# Altium integrated library WCAP-PSLP_rev15a.intlib: 49 symbols (part 1 of 2)
Pins are listed as number, name and electrical type; pins without a type are passive.

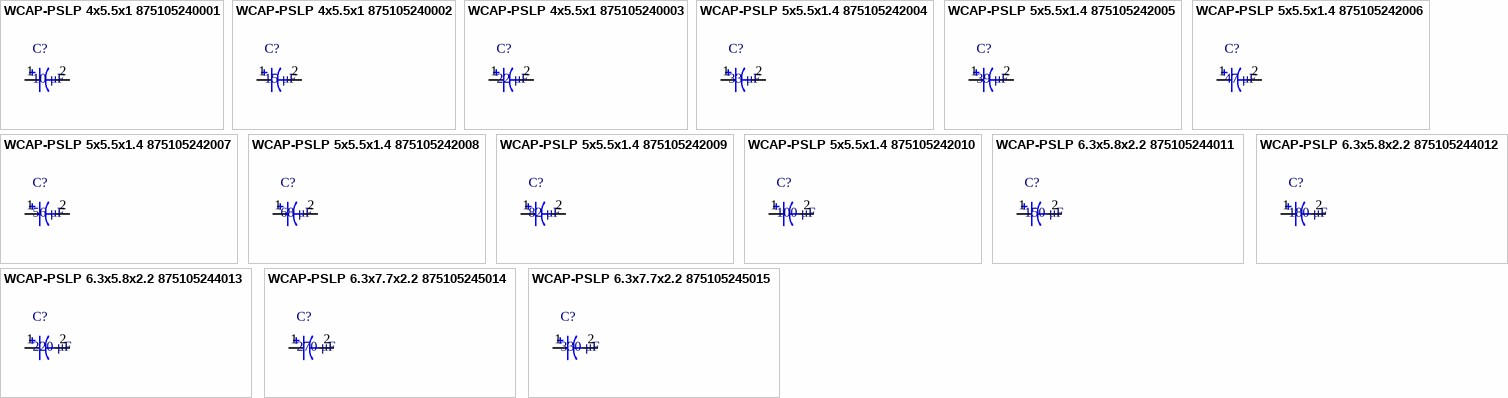
[diagram p0: symbols WCAP-PSLP 4x5.5x1 875105240001 to WCAP-PSLP 6.3x7.7x2.2 875105245015]

## WCAP-PSLP 4x5.5x1 875105240001
designator C?, comment 10 μF
WCAP-PSLP Aluminum Polymer Capacitors , 10 μF; + / - 20%; 10 V , 4 x 5,5; Manufacturer: Wurth Elektronik; partNo: 875105240001; E-mail: libraries@we-online.com; Characteristics: Aluminum Polymer Capacitors;Recommended soldering: Reflow;Operating temperature: –55 °C to +105 °C;Low profile SMD product series;Low ESR at high frequency range;High permissible ripple current;Load life: 2000 h @ +105 °C; ComponentLink1Description: Manufacturer; ComponentLink1URL: http://www.we-online.com; ComponentLink2Description: Datasheet; ComponentLink2URL: http://katalog.we-online.de/pbs/datasheet/875105240001.pdf; Created by: Karrer Zheng; Created Date: 5/13/2015; Capacitance: 10 μF; Application: Low voltage port filtering, appplid to high-end switching power supply, PC(desktop,laptop ),industrial computer, VGA card, server power, charger, TV, digital set-top box,DC-DC power module, game machine etc which consume large current with high speed circuit.
footprint WCAP-PSLP 4x5.5x1
pins: 1, 2

## WCAP-PSLP 4x5.5x1 875105240002
designator C?, comment 15 μF
WCAP-PSLP Aluminum Polymer Capacitors , 15 μF; + / - 20%; 10 V , 4 x 5,5; Manufacturer: Wurth Elektronik; partNo: 875105240002; E-mail: libraries@we-online.com; Characteristics: Aluminum Polymer Capacitors;Recommended soldering: Reflow;Operating temperature: –55 °C to +105 °C;Low profile SMD product series;Low ESR at high frequency range;High permissible ripple current;Load life: 2000 h @ +105 °C; ComponentLink1Description: Manufacturer; ComponentLink1URL: http://www.we-online.com; ComponentLink2Description: Datasheet; ComponentLink2URL: http://katalog.we-online.de/pbs/datasheet/875105240002.pdf; Created by: Karrer Zheng; Created Date: 5/13/2015; Capacitance: 15 μF; Application: Low voltage port filtering, appplid to high-end switching power supply, PC(desktop,laptop ),industrial computer, VGA card, server power, charger, TV, digital set-top box,DC-DC power module, game machine etc which consume large current with high speed circuit.
footprint WCAP-PSLP 4x5.5x1
pins: 1, 2

## WCAP-PSLP 4x5.5x1 875105240003
designator C?, comment 22 μF
WCAP-PSLP Aluminum Polymer Capacitors , 22 μF; + / - 20%; 10 V , 4 x 5,5; Manufacturer: Wurth Elektronik; partNo: 875105240003; E-mail: libraries@we-online.com; Characteristics: Aluminum Polymer Capacitors;Recommended soldering: Reflow;Operating temperature: –55 °C to +105 °C;Low profile SMD product series;Low ESR at high frequency range;High permissible ripple current;Load life: 2000 h @ +105 °C; ComponentLink1Description: Manufacturer; ComponentLink1URL: http://www.we-online.com; ComponentLink2Description: Datasheet; ComponentLink2URL: http://katalog.we-online.de/pbs/datasheet/875105240003.pdf; Created by: Karrer Zheng; Created Date: 5/13/2015; Capacitance: 22 μF; Application: Low voltage port filtering, appplid to high-end switching power supply, PC(desktop,laptop ),industrial computer, VGA card, server power, charger, TV, digital set-top box,DC-DC power module, game machine etc which consume large current with high speed circuit.
footprint WCAP-PSLP 4x5.5x1
pins: 1, 2

## WCAP-PSLP 5x5.5x1.4 875105242004
designator C?, comment 33 μF
WCAP-PSLP Aluminum Polymer Capacitors , 33 μF; + / - 20%; 10 V , 5 x 5,5; Manufacturer: Wurth Elektronik; partNo: 875105242004; E-mail: libraries@we-online.com; Characteristics: Aluminum Polymer Capacitors;Recommended soldering: Reflow;Operating temperature: –55 °C to +105 °C;Low profile SMD product series;Low ESR at high frequency range;High permissible ripple current;Load life: 2000 h @ +105 °C; ComponentLink1Description: Manufacturer; ComponentLink1URL: http://www.we-online.com; ComponentLink2Description: Datasheet; ComponentLink2URL: http://katalog.we-online.de/pbs/datasheet/875105242004.pdf; Created by: Karrer Zheng; Created Date: 5/13/2015; Capacitance: 33 μF; Application: Low voltage port filtering, appplid to high-end switching power supply, PC(desktop,laptop ),industrial computer, VGA card, server power, charger, TV, digital set-top box,DC-DC power module, game machine etc which consume large current with high speed circuit.
footprint WCAP-PSLP 5x5.5x1.4
pins: 1, 2

## WCAP-PSLP 5x5.5x1.4 875105242005
designator C?, comment 39 μF
WCAP-PSLP Aluminum Polymer Capacitors , 39 μF; + / - 20%; 10 V , 5 x 5,5; Manufacturer: Wurth Elektronik; partNo: 875105242005; E-mail: libraries@we-online.com; Characteristics: Aluminum Polymer Capacitors;Recommended soldering: Reflow;Operating temperature: –55 °C to +105 °C;Low profile SMD product series;Low ESR at high frequency range;High permissible ripple current;Load life: 2000 h @ +105 °C; ComponentLink1Description: Manufacturer; ComponentLink1URL: http://www.we-online.com; ComponentLink2Description: Datasheet; ComponentLink2URL: http://katalog.we-online.de/pbs/datasheet/875105242005.pdf; Created by: Karrer Zheng; Created Date: 5/13/2015; Capacitance: 39 μF; Application: Low voltage port filtering, appplid to high-end switching power supply, PC(desktop,laptop ),industrial computer, VGA card, server power, charger, TV, digital set-top box,DC-DC power module, game machine etc which consume large current with high speed circuit.
footprint WCAP-PSLP 5x5.5x1.4
pins: 1, 2

## WCAP-PSLP 5x5.5x1.4 875105242006
designator C?, comment 47 μF
WCAP-PSLP Aluminum Polymer Capacitors , 47 μF; + / - 20%; 10 V , 5 x 5,5; Manufacturer: Wurth Elektronik; partNo: 875105242006; E-mail: libraries@we-online.com; Characteristics: Aluminum Polymer Capacitors;Recommended soldering: Reflow;Operating temperature: –55 °C to +105 °C;Low profile SMD product series;Low ESR at high frequency range;High permissible ripple current;Load life: 2000 h @ +105 °C; ComponentLink1Description: Manufacturer; ComponentLink1URL: http://www.we-online.com; ComponentLink2Description: Datasheet; ComponentLink2URL: http://katalog.we-online.de/pbs/datasheet/875105242006.pdf; Created by: Karrer Zheng; Created Date: 5/13/2015; Capacitance: 47 μF; Application: Low voltage port filtering, appplid to high-end switching power supply, PC(desktop,laptop ),industrial computer, VGA card, server power, charger, TV, digital set-top box,DC-DC power module, game machine etc which consume large current with high speed circuit.
footprint WCAP-PSLP 5x5.5x1.4
pins: 1, 2

## WCAP-PSLP 5x5.5x1.4 875105242007
designator C?, comment 56 μF
WCAP-PSLP Aluminum Polymer Capacitors , 56 μF; + / - 20%; 10 V , 5 x 5,5; Manufacturer: Wurth Elektronik; partNo: 875105242007; E-mail: libraries@we-online.com; Characteristics: Aluminum Polymer Capacitors;Recommended soldering: Reflow;Operating temperature: –55 °C to +105 °C;Low profile SMD product series;Low ESR at high frequency range;High permissible ripple current;Load life: 2000 h @ +105 °C; ComponentLink1Description: Manufacturer; ComponentLink1URL: http://www.we-online.com; ComponentLink2Description: Datasheet; ComponentLink2URL: http://katalog.we-online.de/pbs/datasheet/875105242007.pdf; Created by: Karrer Zheng; Created Date: 5/13/2015; Capacitance: 56 μF; Application: Low voltage port filtering, appplid to high-end switching power supply, PC(desktop,laptop ),industrial computer, VGA card, server power, charger, TV, digital set-top box,DC-DC power module, game machine etc which consume large current with high speed circuit.
footprint WCAP-PSLP 5x5.5x1.4
pins: 1, 2

## WCAP-PSLP 5x5.5x1.4 875105242008
designator C?, comment 68 μF
WCAP-PSLP Aluminum Polymer Capacitors , 68 μF; + / - 20%; 10 V , 5 x 5,5; Manufacturer: Wurth Elektronik; partNo: 875105242008; E-mail: libraries@we-online.com; Characteristics: Aluminum Polymer Capacitors;Recommended soldering: Reflow;Operating temperature: –55 °C to +105 °C;Low profile SMD product series;Low ESR at high frequency range;High permissible ripple current;Load life: 2000 h @ +105 °C; ComponentLink1Description: Manufacturer; ComponentLink1URL: http://www.we-online.com; ComponentLink2Description: Datasheet; ComponentLink2URL: http://katalog.we-online.de/pbs/datasheet/875105242008.pdf; Created by: Karrer Zheng; Created Date: 5/13/2015; Capacitance: 68 μF; Application: Low voltage port filtering, appplid to high-end switching power supply, PC(desktop,laptop ),industrial computer, VGA card, server power, charger, TV, digital set-top box,DC-DC power module, game machine etc which consume large current with high speed circuit.
footprint WCAP-PSLP 5x5.5x1.4
pins: 1, 2

## WCAP-PSLP 5x5.5x1.4 875105242009
designator C?, comment 82 μF
WCAP-PSLP Aluminum Polymer Capacitors , 82 μF; + / - 20%; 10 V , 5 x 5,5; Manufacturer: Wurth Elektronik; partNo: 875105242009; E-mail: libraries@we-online.com; Characteristics: Aluminum Polymer Capacitors;Recommended soldering: Reflow;Operating temperature: –55 °C to +105 °C;Low profile SMD product series;Low ESR at high frequency range;High permissible ripple current;Load life: 2000 h @ +105 °C; ComponentLink1Description: Manufacturer; ComponentLink1URL: http://www.we-online.com; ComponentLink2Description: Datasheet; ComponentLink2URL: http://katalog.we-online.de/pbs/datasheet/875105242009.pdf; Created by: Karrer Zheng; Created Date: 5/13/2015; Capacitance: 82 μF; Application: Low voltage port filtering, appplid to high-end switching power supply, PC(desktop,laptop ),industrial computer, VGA card, server power, charger, TV, digital set-top box,DC-DC power module, game machine etc which consume large current with high speed circuit.
footprint WCAP-PSLP 5x5.5x1.4
pins: 1, 2

## WCAP-PSLP 5x5.5x1.4 875105242010
designator C?, comment 100 μF
WCAP-PSLP Aluminum Polymer Capacitors , 100 μF; + / - 20%; 10 V , 5 x 5,5; Manufacturer: Wurth Elektronik; partNo: 875105242010; E-mail: libraries@we-online.com; Characteristics: Aluminum Polymer Capacitors;Recommended soldering: Reflow;Operating temperature: –55 °C to +105 °C;Low profile SMD product series;Low ESR at high frequency range;High permissible ripple current;Load life: 2000 h @ +105 °C; ComponentLink1Description: Manufacturer; ComponentLink1URL: http://www.we-online.com; ComponentLink2Description: Datasheet; ComponentLink2URL: http://katalog.we-online.de/pbs/datasheet/875105242010.pdf; Created by: Karrer Zheng; Created Date: 5/13/2015; Capacitance: 100 μF; Application: Low voltage port filtering, appplid to high-end switching power supply, PC(desktop,laptop ),industrial computer, VGA card, server power, charger, TV, digital set-top box,DC-DC power module, game machine etc which consume large current with high speed circuit.
footprint WCAP-PSLP 5x5.5x1.4
pins: 1, 2

## WCAP-PSLP 6.3x5.8x2.2 875105244011
designator C?, comment 150 μF
WCAP-PSLP Aluminum Polymer Capacitors , 150 μF; + / - 20%; 10 V , 6,3 x 5,8; Manufacturer: Wurth Elektronik; partNo: 875105244011; E-mail: libraries@we-online.com; Characteristics: Aluminum Polymer Capacitors;Recommended soldering: Reflow;Operating temperature: –55 °C to +105 °C;Low profile SMD product series;Low ESR at high frequency range;High permissible ripple current;Load life: 2000 h @ +105 °C; ComponentLink1Description: Manufacturer; ComponentLink1URL: http://www.we-online.com; ComponentLink2Description: Datasheet; ComponentLink2URL: http://katalog.we-online.de/pbs/datasheet/875105244011.pdf; Created by: Karrer Zheng; Created Date: 5/13/2015; Capacitance: 150 μF; Application: Low voltage port filtering, appplid to high-end switching power supply, PC(desktop,laptop ),industrial computer, VGA card, server power, charger, TV, digital set-top box,DC-DC power module, game machine etc which consume large current with high speed circuit.
footprint WCAP-PSLP 6.3x5.8x2.2
pins: 1, 2

## WCAP-PSLP 6.3x5.8x2.2 875105244012
designator C?, comment 180 μF
WCAP-PSLP Aluminum Polymer Capacitors , 180 μF; + / - 20%; 10 V , 6,3 x 5,8; Manufacturer: Wurth Elektronik; partNo: 875105244012; E-mail: libraries@we-online.com; Characteristics: Aluminum Polymer Capacitors;Recommended soldering: Reflow;Operating temperature: –55 °C to +105 °C;Low profile SMD product series;Low ESR at high frequency range;High permissible ripple current;Load life: 2000 h @ +105 °C; ComponentLink1Description: Manufacturer; ComponentLink1URL: http://www.we-online.com; ComponentLink2Description: Datasheet; ComponentLink2URL: http://katalog.we-online.de/pbs/datasheet/875105244012.pdf; Created by: Karrer Zheng; Created Date: 5/13/2015; Capacitance: 180 μF; Application: Low voltage port filtering, appplid to high-end switching power supply, PC(desktop,laptop ),industrial computer, VGA card, server power, charger, TV, digital set-top box,DC-DC power module, game machine etc which consume large current with high speed circuit.
footprint WCAP-PSLP 6.3x5.8x2.2
pins: 1, 2

## WCAP-PSLP 6.3x5.8x2.2 875105244013
designator C?, comment 220 μF
WCAP-PSLP Aluminum Polymer Capacitors , 220 μF; + / - 20%; 10 V , 6,3 x 5,8; Manufacturer: Wurth Elektronik; partNo: 875105244013; E-mail: libraries@we-online.com; Characteristics: Aluminum Polymer Capacitors;Recommended soldering: Reflow;Operating temperature: –55 °C to +105 °C;Low profile SMD product series;Low ESR at high frequency range;High permissible ripple current;Load life: 2000 h @ +105 °C; ComponentLink1Description: Manufacturer; ComponentLink1URL: http://www.we-online.com; ComponentLink2Description: Datasheet; ComponentLink2URL: http://katalog.we-online.de/pbs/datasheet/875105244013.pdf; Created by: Karrer Zheng; Created Date: 5/13/2015; Capacitance: 220 μF; Application: Low voltage port filtering, appplid to high-end switching power supply, PC(desktop,laptop ),industrial computer, VGA card, server power, charger, TV, digital set-top box,DC-DC power module, game machine etc which consume large current with high speed circuit.
footprint WCAP-PSLP 6.3x5.8x2.2
pins: 1, 2

## WCAP-PSLP 6.3x7.7x2.2 875105245014
designator C?, comment 270 μF
WCAP-PSLP Aluminum Polymer Capacitors , 270 μF; + / - 20%; 10 V , 6,3 x 7,7; Manufacturer: Wurth Elektronik; partNo: 875105245014; E-mail: libraries@we-online.com; Characteristics: Aluminum Polymer Capacitors;Recommended soldering: Reflow;Operating temperature: –55 °C to +105 °C;Low profile SMD product series;Low ESR at high frequency range;High permissible ripple current;Load life: 2000 h @ +105 °C; ComponentLink1Description: Manufacturer; ComponentLink1URL: http://www.we-online.com; ComponentLink2Description: Datasheet; ComponentLink2URL: http://katalog.we-online.de/pbs/datasheet/875105245014.pdf; Created by: Karrer Zheng; Created Date: 5/13/2015; Capacitance: 270 μF; Application: Low voltage port filtering, appplid to high-end switching power supply, PC(desktop,laptop ),industrial computer, VGA card, server power, charger, TV, digital set-top box,DC-DC power module, game machine etc which consume large current with high speed circuit.
footprint WCAP-PSLP 6.3x7.7x2.2
pins: 1, 2

## WCAP-PSLP 6.3x7.7x2.2 875105245015
designator C?, comment 330 μF
WCAP-PSLP Aluminum Polymer Capacitors , 330 μF; + / - 20%; 10 V , 6,3 x 7,7; Manufacturer: Wurth Elektronik; partNo: 875105245015; E-mail: libraries@we-online.com; Characteristics: Aluminum Polymer Capacitors;Recommended soldering: Reflow;Operating temperature: –55 °C to +105 °C;Low profile SMD product series;Low ESR at high frequency range;High permissible ripple current;Load life: 2000 h @ +105 °C; ComponentLink1Description: Manufacturer; ComponentLink1URL: http://www.we-online.com; ComponentLink2Description: Datasheet; ComponentLink2URL: http://katalog.we-online.de/pbs/datasheet/875105245015.pdf; Created by: Karrer Zheng; Created Date: 5/13/2015; Capacitance: 330 μF; Application: Low voltage port filtering, appplid to high-end switching power supply, PC(desktop,laptop ),industrial computer, VGA card, server power, charger, TV, digital set-top box,DC-DC power module, game machine etc which consume large current with high speed circuit.
footprint WCAP-PSLP 6.3x7.7x2.2
pins: 1, 2


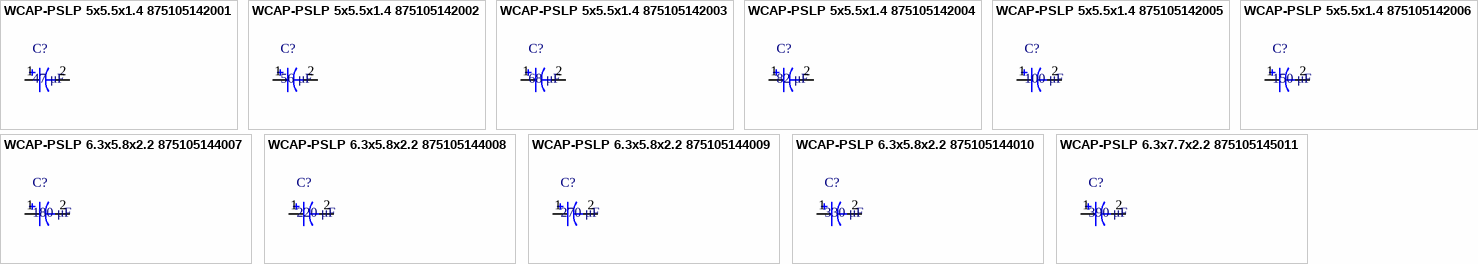
[diagram p1: symbols WCAP-PSLP 5x5.5x1.4 875105142001 to WCAP-PSLP 6.3x7.7x2.2 875105145011]

## WCAP-PSLP 5x5.5x1.4 875105142001
designator C?, comment 47 μF
WCAP-PSLP Aluminum Polymer Capacitors , 47 μF; + / - 20%; 6,3 V , 5 x 5,5; Manufacturer: Wurth Elektronik; partNo: 875105142001; E-mail: libraries@we-online.com; Characteristics: Aluminum Polymer Capacitors;Recommended soldering: Reflow;Operating temperature: –55 °C to +105 °C;Low profile SMD product series;Low ESR at high frequency range;High permissible ripple current;Load life: 2000 h @ +105 °C; ComponentLink1Description: Manufacturer; ComponentLink1URL: http://www.we-online.com; ComponentLink2Description: Datasheet; ComponentLink2URL: http://katalog.we-online.de/pbs/datasheet/875105142001.pdf; Created by: Karrer Zheng; Created Date: 5/13/2015; Capacitance: 47 μF; Application: Low voltage port filtering, appplid to high-end switching power supply, PC(desktop,laptop ),industrial computer, VGA card, server power, charger, TV, digital set-top box,DC-DC power module, game machine etc which consume large current with high speed circuit.
footprint WCAP-PSLP 5x5.5x1.4
pins: 1, 2

## WCAP-PSLP 5x5.5x1.4 875105142002
designator C?, comment 56 μF
WCAP-PSLP Aluminum Polymer Capacitors , 56 μF; + / - 20%; 6,3 V , 5 x 5,5; Manufacturer: Wurth Elektronik; partNo: 875105142002; E-mail: libraries@we-online.com; Characteristics: Aluminum Polymer Capacitors;Recommended soldering: Reflow;Operating temperature: –55 °C to +105 °C;Low profile SMD product series;Low ESR at high frequency range;High permissible ripple current;Load life: 2000 h @ +105 °C; ComponentLink1Description: Manufacturer; ComponentLink1URL: http://www.we-online.com; ComponentLink2Description: Datasheet; ComponentLink2URL: http://katalog.we-online.de/pbs/datasheet/875105142002.pdf; Created by: Karrer Zheng; Created Date: 5/13/2015; Capacitance: 56 μF; Application: Low voltage port filtering, appplid to high-end switching power supply, PC(desktop,laptop ),industrial computer, VGA card, server power, charger, TV, digital set-top box,DC-DC power module, game machine etc which consume large current with high speed circuit.
footprint WCAP-PSLP 5x5.5x1.4
pins: 1, 2

## WCAP-PSLP 5x5.5x1.4 875105142003
designator C?, comment 68 μF
WCAP-PSLP Aluminum Polymer Capacitors , 68 μF; + / - 20%; 6,3 V , 5 x 5,5; Manufacturer: Wurth Elektronik; partNo: 875105142003; E-mail: libraries@we-online.com; Characteristics: Aluminum Polymer Capacitors;Recommended soldering: Reflow;Operating temperature: –55 °C to +105 °C;Low profile SMD product series;Low ESR at high frequency range;High permissible ripple current;Load life: 2000 h @ +105 °C; ComponentLink1Description: Manufacturer; ComponentLink1URL: http://www.we-online.com; ComponentLink2Description: Datasheet; ComponentLink2URL: http://katalog.we-online.de/pbs/datasheet/875105142003.pdf; Created by: Karrer Zheng; Created Date: 5/13/2015; Capacitance: 68 μF; Application: Low voltage port filtering, appplid to high-end switching power supply, PC(desktop,laptop ),industrial computer, VGA card, server power, charger, TV, digital set-top box,DC-DC power module, game machine etc which consume large current with high speed circuit.
footprint WCAP-PSLP 5x5.5x1.4
pins: 1, 2

## WCAP-PSLP 5x5.5x1.4 875105142004
designator C?, comment 82 μF
WCAP-PSLP Aluminum Polymer Capacitors , 82 μF; + / - 20%; 6,3 V , 5 x 5,5; Manufacturer: Wurth Elektronik; partNo: 875105142004; E-mail: libraries@we-online.com; Characteristics: Aluminum Polymer Capacitors;Recommended soldering: Reflow;Operating temperature: –55 °C to +105 °C;Low profile SMD product series;Low ESR at high frequency range;High permissible ripple current;Load life: 2000 h @ +105 °C; ComponentLink1Description: Manufacturer; ComponentLink1URL: http://www.we-online.com; ComponentLink2Description: Datasheet; ComponentLink2URL: http://katalog.we-online.de/pbs/datasheet/875105142004.pdf; Created by: Karrer Zheng; Created Date: 5/13/2015; Capacitance: 82 μF; Application: Low voltage port filtering, appplid to high-end switching power supply, PC(desktop,laptop ),industrial computer, VGA card, server power, charger, TV, digital set-top box,DC-DC power module, game machine etc which consume large current with high speed circuit.
footprint WCAP-PSLP 5x5.5x1.4
pins: 1, 2

## WCAP-PSLP 5x5.5x1.4 875105142005
designator C?, comment 100 μF
WCAP-PSLP Aluminum Polymer Capacitors , 100 μF; + / - 20%; 6,3 V , 5 x 5,5; Manufacturer: Wurth Elektronik; partNo: 875105142005; E-mail: libraries@we-online.com; Characteristics: Aluminum Polymer Capacitors;Recommended soldering: Reflow;Operating temperature: –55 °C to +105 °C;Low profile SMD product series;Low ESR at high frequency range;High permissible ripple current;Load life: 2000 h @ +105 °C; ComponentLink1Description: Manufacturer; ComponentLink1URL: http://www.we-online.com; ComponentLink2Description: Datasheet; ComponentLink2URL: http://katalog.we-online.de/pbs/datasheet/875105142005.pdf; Created by: Karrer Zheng; Created Date: 5/13/2015; Capacitance: 100 μF; Application: Low voltage port filtering, appplid to high-end switching power supply, PC(desktop,laptop ),industrial computer, VGA card, server power, charger, TV, digital set-top box,DC-DC power module, game machine etc which consume large current with high speed circuit.
footprint WCAP-PSLP 5x5.5x1.4
pins: 1, 2

## WCAP-PSLP 5x5.5x1.4 875105142006
designator C?, comment 150 μF
WCAP-PSLP Aluminum Polymer Capacitors , 150 μF; + / - 20%; 6,3 V , 5 x 5,5; Manufacturer: Wurth Elektronik; partNo: 875105142006; E-mail: libraries@we-online.com; Characteristics: Aluminum Polymer Capacitors;Recommended soldering: Reflow;Operating temperature: –55 °C to +105 °C;Low profile SMD product series;Low ESR at high frequency range;High permissible ripple current;Load life: 2000 h @ +105 °C; ComponentLink1Description: Manufacturer; ComponentLink1URL: http://www.we-online.com; ComponentLink2Description: Datasheet; ComponentLink2URL: http://katalog.we-online.de/pbs/datasheet/875105142006.pdf; Created by: Karrer Zheng; Created Date: 5/13/2015; Capacitance: 150 μF; Application: Low voltage port filtering, appplid to high-end switching power supply, PC(desktop,laptop ),industrial computer, VGA card, server power, charger, TV, digital set-top box,DC-DC power module, game machine etc which consume large current with high speed circuit.
footprint WCAP-PSLP 5x5.5x1.4
pins: 1, 2

## WCAP-PSLP 6.3x5.8x2.2 875105144007
designator C?, comment 180 μF
WCAP-PSLP Aluminum Polymer Capacitors , 180 μF; + / - 20%; 6,3 V , 6,3 x 5,8; Manufacturer: Wurth Elektronik; partNo: 875105144007; E-mail: libraries@we-online.com; Characteristics: Aluminum Polymer Capacitors;Recommended soldering: Reflow;Operating temperature: –55 °C to +105 °C;Low profile SMD product series;Low ESR at high frequency range;High permissible ripple current;Load life: 2000 h @ +105 °C; ComponentLink1Description: Manufacturer; ComponentLink1URL: http://www.we-online.com; ComponentLink2Description: Datasheet; ComponentLink2URL: http://katalog.we-online.de/pbs/datasheet/875105144007.pdf; Created by: Karrer Zheng; Created Date: 5/13/2015; Capacitance: 180 μF; Application: Low voltage port filtering, appplid to high-end switching power supply, PC(desktop,laptop ),industrial computer, VGA card, server power, charger, TV, digital set-top box,DC-DC power module, game machine etc which consume large current with high speed circuit.
footprint WCAP-PSLP 6.3x5.8x2.2
pins: 1, 2

## WCAP-PSLP 6.3x5.8x2.2 875105144008
designator C?, comment 220 μF
WCAP-PSLP Aluminum Polymer Capacitors , 220 μF; + / - 20%; 6,3 V , 6,3 x 5,8; Manufacturer: Wurth Elektronik; partNo: 875105144008; E-mail: libraries@we-online.com; Characteristics: Aluminum Polymer Capacitors;Recommended soldering: Reflow;Operating temperature: –55 °C to +105 °C;Low profile SMD product series;Low ESR at high frequency range;High permissible ripple current;Load life: 2000 h @ +105 °C; ComponentLink1Description: Manufacturer; ComponentLink1URL: http://www.we-online.com; ComponentLink2Description: Datasheet; ComponentLink2URL: http://katalog.we-online.de/pbs/datasheet/875105144008.pdf; Created by: Karrer Zheng; Created Date: 5/13/2015; Capacitance: 220 μF; Application: Low voltage port filtering, appplid to high-end switching power supply, PC(desktop,laptop ),industrial computer, VGA card, server power, charger, TV, digital set-top box,DC-DC power module, game machine etc which consume large current with high speed circuit.
footprint WCAP-PSLP 6.3x5.8x2.2
pins: 1, 2

## WCAP-PSLP 6.3x5.8x2.2 875105144009
designator C?, comment 270 μF
WCAP-PSLP Aluminum Polymer Capacitors , 270 μF; + / - 20%; 6,3 V , 6,3 x 5,8; Manufacturer: Wurth Elektronik; partNo: 875105144009; E-mail: libraries@we-online.com; Characteristics: Aluminum Polymer Capacitors;Recommended soldering: Reflow;Operating temperature: –55 °C to +105 °C;Low profile SMD product series;Low ESR at high frequency range;High permissible ripple current;Load life: 2000 h @ +105 °C; ComponentLink1Description: Manufacturer; ComponentLink1URL: http://www.we-online.com; ComponentLink2Description: Datasheet; ComponentLink2URL: http://katalog.we-online.de/pbs/datasheet/875105144009.pdf; Created by: Karrer Zheng; Created Date: 5/13/2015; Capacitance: 270 μF; Application: Low voltage port filtering, appplid to high-end switching power supply, PC(desktop,laptop ),industrial computer, VGA card, server power, charger, TV, digital set-top box,DC-DC power module, game machine etc which consume large current with high speed circuit.
footprint WCAP-PSLP 6.3x5.8x2.2
pins: 1, 2

## WCAP-PSLP 6.3x5.8x2.2 875105144010
designator C?, comment 330 μF
WCAP-PSLP Aluminum Polymer Capacitors , 330 μF; + / - 20%; 6,3 V , 6,3 x 5,8; Manufacturer: Wurth Elektronik; partNo: 875105144010; E-mail: libraries@we-online.com; Characteristics: Aluminum Polymer Capacitors;Recommended soldering: Reflow;Operating temperature: –55 °C to +105 °C;Low profile SMD product series;Low ESR at high frequency range;High permissible ripple current;Load life: 2000 h @ +105 °C; ComponentLink1Description: Manufacturer; ComponentLink1URL: http://www.we-online.com; ComponentLink2Description: Datasheet; ComponentLink2URL: http://katalog.we-online.de/pbs/datasheet/875105144010.pdf; Created by: Karrer Zheng; Created Date: 5/13/2015; Capacitance: 330 μF; Application: Low voltage port filtering, appplid to high-end switching power supply, PC(desktop,laptop ),industrial computer, VGA card, server power, charger, TV, digital set-top box,DC-DC power module, game machine etc which consume large current with high speed circuit.
footprint WCAP-PSLP 6.3x5.8x2.2
pins: 1, 2

## WCAP-PSLP 6.3x7.7x2.2 875105145011
designator C?, comment 390 μF
WCAP-PSLP Aluminum Polymer Capacitors , 390 μF; + / - 20%; 6,3 V , 6,3 x 7,7; Manufacturer: Wurth Elektronik; partNo: 875105145011; E-mail: libraries@we-online.com; Characteristics: Aluminum Polymer Capacitors;Recommended soldering: Reflow;Operating temperature: –55 °C to +105 °C;Low profile SMD product series;Low ESR at high frequency range;High permissible ripple current;Load life: 2000 h @ +105 °C; ComponentLink1Description: Manufacturer; ComponentLink1URL: http://www.we-online.com; ComponentLink2Description: Datasheet; ComponentLink2URL: http://katalog.we-online.de/pbs/datasheet/875105145011.pdf; Created by: Karrer Zheng; Created Date: 5/13/2015; Capacitance: 390 μF; Application: Low voltage port filtering, appplid to high-end switching power supply, PC(desktop,laptop ),industrial computer, VGA card, server power, charger, TV, digital set-top box,DC-DC power module, game machine etc which consume large current with high speed circuit.
footprint WCAP-PSLP 6.3x7.7x2.2
pins: 1, 2


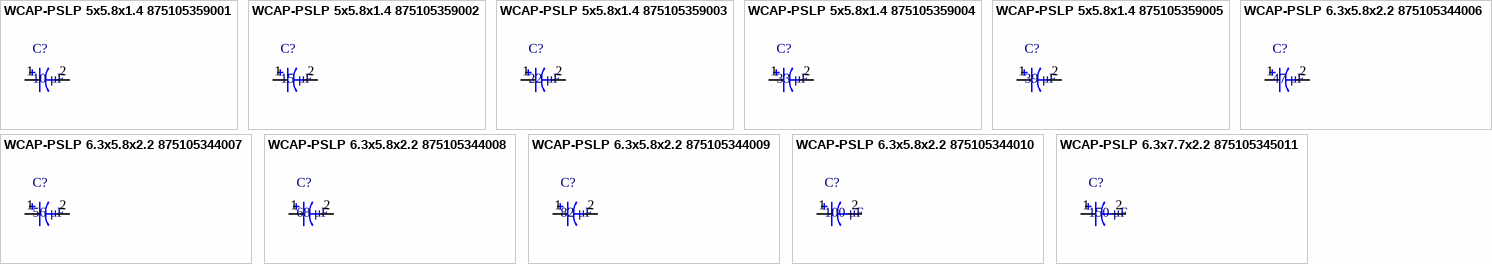
[diagram p2: symbols WCAP-PSLP 5x5.8x1.4 875105359001 to WCAP-PSLP 6.3x7.7x2.2 875105345011]

## WCAP-PSLP 5x5.8x1.4 875105359001
designator C?, comment 10 μF
WCAP-PSLP Aluminum Polymer Capacitors , 10 μF; + / - 20%; 16 V , 5 x 5,8; Manufacturer: Wurth Elektronik; partNo: 875105359001; E-mail: libraries@we-online.com; Characteristics: Aluminum Polymer Capacitors;Recommended soldering: Reflow;Operating temperature: –55 °C to +105 °C;Low profile SMD product series;Low ESR at high frequency range;High permissible ripple current;Load life: 2000 h @ +105 °C; ComponentLink1Description: Manufacturer; ComponentLink1URL: http://www.we-online.com; ComponentLink2Description: Datasheet; ComponentLink2URL: http://katalog.we-online.de/pbs/datasheet/875105359001.pdf; Created by: Karrer Zheng; Created Date: 5/13/2015; Capacitance: 10 μF; Application: Low voltage port filtering, appplid to high-end switching power supply, PC(desktop,laptop ),industrial computer, VGA card, server power, charger, TV, digital set-top box,DC-DC power module, game machine etc which consume large current with high speed circuit.
footprint WCAP-PSLP 5x5.8x1.4
pins: 1, 2

## WCAP-PSLP 5x5.8x1.4 875105359002
designator C?, comment 15 μF
WCAP-PSLP Aluminum Polymer Capacitors , 15 μF; + / - 20%; 16 V , 5 x 5,8; Manufacturer: Wurth Elektronik; partNo: 875105359002; E-mail: libraries@we-online.com; Characteristics: Aluminum Polymer Capacitors;Recommended soldering: Reflow;Operating temperature: –55 °C to +105 °C;Low profile SMD product series;Low ESR at high frequency range;High permissible ripple current;Load life: 2000 h @ +105 °C; ComponentLink1Description: Manufacturer; ComponentLink1URL: http://www.we-online.com; ComponentLink2Description: Datasheet; ComponentLink2URL: http://katalog.we-online.de/pbs/datasheet/875105359002.pdf; Created by: Karrer Zheng; Created Date: 5/13/2015; Capacitance: 15 μF; Application: Low voltage port filtering, appplid to high-end switching power supply, PC(desktop,laptop ),industrial computer, VGA card, server power, charger, TV, digital set-top box,DC-DC power module, game machine etc which consume large current with high speed circuit.
footprint WCAP-PSLP 5x5.8x1.4
pins: 1, 2

## WCAP-PSLP 5x5.8x1.4 875105359003
designator C?, comment 22 μF
WCAP-PSLP Aluminum Polymer Capacitors , 22 μF; + / - 20%; 16 V , 5 x 5,8; Manufacturer: Wurth Elektronik; partNo: 875105359003; E-mail: libraries@we-online.com; Characteristics: Aluminum Polymer Capacitors;Recommended soldering: Reflow;Operating temperature: –55 °C to +105 °C;Low profile SMD product series;Low ESR at high frequency range;High permissible ripple current;Load life: 2000 h @ +105 °C; ComponentLink1Description: Manufacturer; ComponentLink1URL: http://www.we-online.com; ComponentLink2Description: Datasheet; ComponentLink2URL: http://katalog.we-online.de/pbs/datasheet/875105359003.pdf; Created by: Karrer Zheng; Created Date: 5/13/2015; Capacitance: 22 μF; Application: Low voltage port filtering, appplid to high-end switching power supply, PC(desktop,laptop ),industrial computer, VGA card, server power, charger, TV, digital set-top box,DC-DC power module, game machine etc which consume large current with high speed circuit.
footprint WCAP-PSLP 5x5.8x1.4
pins: 1, 2

## WCAP-PSLP 5x5.8x1.4 875105359004
designator C?, comment 33 μF
WCAP-PSLP Aluminum Polymer Capacitors , 33 μF; + / - 20%; 16 V , 5 x 5,8; Manufacturer: Wurth Elektronik; partNo: 875105359004; E-mail: libraries@we-online.com; Characteristics: Aluminum Polymer Capacitors;Recommended soldering: Reflow;Operating temperature: –55 °C to +105 °C;Low profile SMD product series;Low ESR at high frequency range;High permissible ripple current;Load life: 2000 h @ +105 °C; ComponentLink1Description: Manufacturer; ComponentLink1URL: http://www.we-online.com; ComponentLink2Description: Datasheet; ComponentLink2URL: http://katalog.we-online.de/pbs/datasheet/875105359004.pdf; Created by: Karrer Zheng; Created Date: 5/13/2015; Capacitance: 33 μF; Application: Low voltage port filtering, appplid to high-end switching power supply, PC(desktop,laptop ),industrial computer, VGA card, server power, charger, TV, digital set-top box,DC-DC power module, game machine etc which consume large current with high speed circuit.
footprint WCAP-PSLP 5x5.8x1.4
pins: 1, 2

## WCAP-PSLP 5x5.8x1.4 875105359005
designator C?, comment 39 μF
WCAP-PSLP Aluminum Polymer Capacitors , 39 μF; + / - 20%; 16 V , 5 x 5,8; Manufacturer: Wurth Elektronik; partNo: 875105359005; E-mail: libraries@we-online.com; Characteristics: Aluminum Polymer Capacitors;Recommended soldering: Reflow;Operating temperature: –55 °C to +105 °C;Low profile SMD product series;Low ESR at high frequency range;High permissible ripple current;Load life: 2000 h @ +105 °C; ComponentLink1Description: Manufacturer; ComponentLink1URL: http://www.we-online.com; ComponentLink2Description: Datasheet; ComponentLink2URL: http://katalog.we-online.de/pbs/datasheet/875105359005.pdf; Created by: Karrer Zheng; Created Date: 5/13/2015; Capacitance: 39 μF; Application: Low voltage port filtering, appplid to high-end switching power supply, PC(desktop,laptop ),industrial computer, VGA card, server power, charger, TV, digital set-top box,DC-DC power module, game machine etc which consume large current with high speed circuit.
footprint WCAP-PSLP 5x5.8x1.4
pins: 1, 2

## WCAP-PSLP 6.3x5.8x2.2 875105344006
designator C?, comment 47 μF
WCAP-PSLP Aluminum Polymer Capacitors , 47 μF; + / - 20%; 16 V , 6,3 x 5,8; Manufacturer: Wurth Elektronik; partNo: 875105344006; E-mail: libraries@we-online.com; Characteristics: Aluminum Polymer Capacitors;Recommended soldering: Reflow;Operating temperature: –55 °C to +105 °C;Low profile SMD product series;Low ESR at high frequency range;High permissible ripple current;Load life: 2000 h @ +105 °C; ComponentLink1Description: Manufacturer; ComponentLink1URL: http://www.we-online.com; ComponentLink2Description: Datasheet; ComponentLink2URL: http://katalog.we-online.de/pbs/datasheet/875105344006.pdf; Created by: Karrer Zheng; Created Date: 5/13/2015; Capacitance: 47 μF; Application: Low voltage port filtering, appplid to high-end switching power supply, PC(desktop,laptop ),industrial computer, VGA card, server power, charger, TV, digital set-top box,DC-DC power module, game machine etc which consume large current with high speed circuit.
footprint WCAP-PSLP 6.3x5.8x2.2
pins: 1, 2

## WCAP-PSLP 6.3x5.8x2.2 875105344007
designator C?, comment 56 μF
WCAP-PSLP Aluminum Polymer Capacitors , 56 μF; + / - 20%; 16 V , 6,3 x 5,8; Manufacturer: Wurth Elektronik; partNo: 875105344007; E-mail: libraries@we-online.com; Characteristics: Aluminum Polymer Capacitors;Recommended soldering: Reflow;Operating temperature: –55 °C to +105 °C;Low profile SMD product series;Low ESR at high frequency range;High permissible ripple current;Load life: 2000 h @ +105 °C; ComponentLink1Description: Manufacturer; ComponentLink1URL: http://www.we-online.com; ComponentLink2Description: Datasheet; ComponentLink2URL: http://katalog.we-online.de/pbs/datasheet/875105344007.pdf; Created by: Karrer Zheng; Created Date: 5/13/2015; Capacitance: 56 μF; Application: Low voltage port filtering, appplid to high-end switching power supply, PC(desktop,laptop ),industrial computer, VGA card, server power, charger, TV, digital set-top box,DC-DC power module, game machine etc which consume large current with high speed circuit.
footprint WCAP-PSLP 6.3x5.8x2.2
pins: 1, 2

## WCAP-PSLP 6.3x5.8x2.2 875105344008
designator C?, comment 68 μF
WCAP-PSLP Aluminum Polymer Capacitors , 68 μF; + / - 20%; 16 V , 6,3 x 5,8; Manufacturer: Wurth Elektronik; partNo: 875105344008; E-mail: libraries@we-online.com; Characteristics: Aluminum Polymer Capacitors;Recommended soldering: Reflow;Operating temperature: –55 °C to +105 °C;Low profile SMD product series;Low ESR at high frequency range;High permissible ripple current;Load life: 2000 h @ +105 °C; ComponentLink1Description: Manufacturer; ComponentLink1URL: http://www.we-online.com; ComponentLink2Description: Datasheet; ComponentLink2URL: http://katalog.we-online.de/pbs/datasheet/875105344008.pdf; Created by: Karrer Zheng; Created Date: 5/13/2015; Capacitance: 68 μF; Application: Low voltage port filtering, appplid to high-end switching power supply, PC(desktop,laptop ),industrial computer, VGA card, server power, charger, TV, digital set-top box,DC-DC power module, game machine etc which consume large current with high speed circuit.
footprint WCAP-PSLP 6.3x5.8x2.2
pins: 1, 2

## WCAP-PSLP 6.3x5.8x2.2 875105344009
designator C?, comment 82 μF
WCAP-PSLP Aluminum Polymer Capacitors , 82 μF; + / - 20%; 16 V , 6,3 x 5,8; Manufacturer: Wurth Elektronik; partNo: 875105344009; E-mail: libraries@we-online.com; Characteristics: Aluminum Polymer Capacitors;Recommended soldering: Reflow;Operating temperature: –55 °C to +105 °C;Low profile SMD product series;Low ESR at high frequency range;High permissible ripple current;Load life: 2000 h @ +105 °C; ComponentLink1Description: Manufacturer; ComponentLink1URL: http://www.we-online.com; ComponentLink2Description: Datasheet; ComponentLink2URL: http://katalog.we-online.de/pbs/datasheet/875105344009.pdf; Created by: Karrer Zheng; Created Date: 5/13/2015; Capacitance: 82 μF; Application: Low voltage port filtering, appplid to high-end switching power supply, PC(desktop,laptop ),industrial computer, VGA card, server power, charger, TV, digital set-top box,DC-DC power module, game machine etc which consume large current with high speed circuit.
footprint WCAP-PSLP 6.3x5.8x2.2
pins: 1, 2

## WCAP-PSLP 6.3x5.8x2.2 875105344010
designator C?, comment 100 μF
WCAP-PSLP Aluminum Polymer Capacitors , 100 μF; + / - 20%; 16 V , 6,3 x 5,8; Manufacturer: Wurth Elektronik; partNo: 875105344010; E-mail: libraries@we-online.com; Characteristics: Aluminum Polymer Capacitors;Recommended soldering: Reflow;Operating temperature: –55 °C to +105 °C;Low profile SMD product series;Low ESR at high frequency range;High permissible ripple current;Load life: 2000 h @ +105 °C; ComponentLink1Description: Manufacturer; ComponentLink1URL: http://www.we-online.com; ComponentLink2Description: Datasheet; ComponentLink2URL: http://katalog.we-online.de/pbs/datasheet/875105344010.pdf; Created by: Karrer Zheng; Created Date: 5/13/2015; Capacitance: 100 μF; Application: Low voltage port filtering, appplid to high-end switching power supply, PC(desktop,laptop ),industrial computer, VGA card, server power, charger, TV, digital set-top box,DC-DC power module, game machine etc which consume large current with high speed circuit.
footprint WCAP-PSLP 6.3x5.8x2.2
pins: 1, 2

## WCAP-PSLP 6.3x7.7x2.2 875105345011
designator C?, comment 150 μF
WCAP-PSLP Aluminum Polymer Capacitors , 150 μF; + / - 20%; 16 V , 6,3 x 7,7; Manufacturer: Wurth Elektronik; partNo: 875105345011; E-mail: libraries@we-online.com; Characteristics: Aluminum Polymer Capacitors;Recommended soldering: Reflow;Operating temperature: –55 °C to +105 °C;Low profile SMD product series;Low ESR at high frequency range;High permissible ripple current;Load life: 2000 h @ +105 °C; ComponentLink1Description: Manufacturer; ComponentLink1URL: http://www.we-online.com; ComponentLink2Description: Datasheet; ComponentLink2URL: http://katalog.we-online.de/pbs/datasheet/875105345011.pdf; Created by: Karrer Zheng; Created Date: 5/13/2015; Capacitance: 150 μF; Application: Low voltage port filtering, appplid to high-end switching power supply, PC(desktop,laptop ),industrial computer, VGA card, server power, charger, TV, digital set-top box,DC-DC power module, game machine etc which consume large current with high speed circuit.
footprint WCAP-PSLP 6.3x7.7x2.2
pins: 1, 2


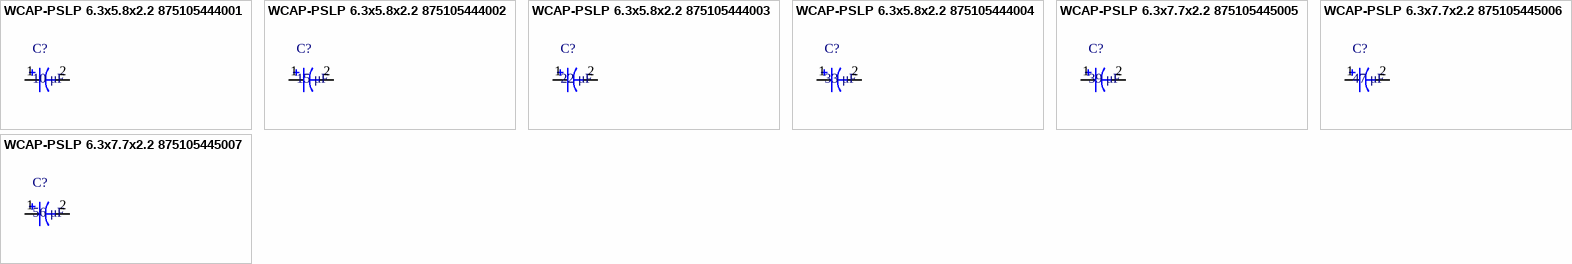
[diagram p3: symbols WCAP-PSLP 6.3x5.8x2.2 875105444001 to WCAP-PSLP 6.3x7.7x2.2 875105445007]

## WCAP-PSLP 6.3x5.8x2.2 875105444001
designator C?, comment 10 μF
WCAP-PSLP Aluminum Polymer Capacitors , 10 μF; + / - 20%; 20 V , 6,3 x 5,8; Manufacturer: Wurth Elektronik; partNo: 875105444001; E-mail: libraries@we-online.com; Characteristics: Aluminum Polymer Capacitors;Recommended soldering: Reflow;Operating temperature: –55 °C to +105 °C;Low profile SMD product series;Low ESR at high frequency range;High permissible ripple current;Load life: 2000 h @ +105 °C; ComponentLink1Description: Manufacturer; ComponentLink1URL: http://www.we-online.com; ComponentLink2Description: Datasheet; ComponentLink2URL: http://katalog.we-online.de/pbs/datasheet/875105444001.pdf; Created by: Karrer Zheng; Created Date: 5/13/2015; Capacitance: 10 μF; Application: Low voltage port filtering, appplid to high-end switching power supply, PC(desktop,laptop ),industrial computer, VGA card, server power, charger, TV, digital set-top box,DC-DC power module, game machine etc which consume large current with high speed circuit.
footprint WCAP-PSLP 6.3x5.8x2.2
pins: 1, 2

## WCAP-PSLP 6.3x5.8x2.2 875105444002
designator C?, comment 15 μF
WCAP-PSLP Aluminum Polymer Capacitors , 15 μF; + / - 20%; 20 V , 6,3 x 5,8; Manufacturer: Wurth Elektronik; partNo: 875105444002; E-mail: libraries@we-online.com; Characteristics: Aluminum Polymer Capacitors;Recommended soldering: Reflow;Operating temperature: –55 °C to +105 °C;Low profile SMD product series;Low ESR at high frequency range;High permissible ripple current;Load life: 2000 h @ +105 °C; ComponentLink1Description: Manufacturer; ComponentLink1URL: http://www.we-online.com; ComponentLink2Description: Datasheet; ComponentLink2URL: http://katalog.we-online.de/pbs/datasheet/875105444002.pdf; Created by: Karrer Zheng; Created Date: 5/13/2015; Capacitance: 15 μF; Application: Low voltage port filtering, appplid to high-end switching power supply, PC(desktop,laptop ),industrial computer, VGA card, server power, charger, TV, digital set-top box,DC-DC power module, game machine etc which consume large current with high speed circuit.
footprint WCAP-PSLP 6.3x5.8x2.2
pins: 1, 2

## WCAP-PSLP 6.3x5.8x2.2 875105444003
designator C?, comment 22 μF
WCAP-PSLP Aluminum Polymer Capacitors , 22 μF; + / - 20%; 20 V , 6,3 x 5,8; Manufacturer: Wurth Elektronik; partNo: 875105444003; E-mail: libraries@we-online.com; Characteristics: Aluminum Polymer Capacitors;Recommended soldering: Reflow;Operating temperature: –55 °C to +105 °C;Low profile SMD product series;Low ESR at high frequency range;High permissible ripple current;Load life: 2000 h @ +105 °C; ComponentLink1Description: Manufacturer; ComponentLink1URL: http://www.we-online.com; ComponentLink2Description: Datasheet; ComponentLink2URL: http://katalog.we-online.de/pbs/datasheet/875105444003.pdf; Created by: Karrer Zheng; Created Date: 5/13/2015; Capacitance: 22 μF; Application: Low voltage port filtering, appplid to high-end switching power supply, PC(desktop,laptop ),industrial computer, VGA card, server power, charger, TV, digital set-top box,DC-DC power module, game machine etc which consume large current with high speed circuit.
footprint WCAP-PSLP 6.3x5.8x2.2
pins: 1, 2

## WCAP-PSLP 6.3x5.8x2.2 875105444004
designator C?, comment 33 μF
WCAP-PSLP Aluminum Polymer Capacitors , 33 μF; + / - 20%; 20 V , 6,3 x 5,8; Manufacturer: Wurth Elektronik; partNo: 875105444004; E-mail: libraries@we-online.com; Characteristics: Aluminum Polymer Capacitors;Recommended soldering: Reflow;Operating temperature: –55 °C to +105 °C;Low profile SMD product series;Low ESR at high frequency range;High permissible ripple current;Load life: 2000 h @ +105 °C; ComponentLink1Description: Manufacturer; ComponentLink1URL: http://www.we-online.com; ComponentLink2Description: Datasheet; ComponentLink2URL: http://katalog.we-online.de/pbs/datasheet/875105444004.pdf; Created by: Karrer Zheng; Created Date: 5/13/2015; Capacitance: 33 μF; Application: Low voltage port filtering, appplid to high-end switching power supply, PC(desktop,laptop ),industrial computer, VGA card, server power, charger, TV, digital set-top box,DC-DC power module, game machine etc which consume large current with high speed circuit.
footprint WCAP-PSLP 6.3x5.8x2.2
pins: 1, 2

## WCAP-PSLP 6.3x7.7x2.2 875105445005
designator C?, comment 39 μF
WCAP-PSLP Aluminum Polymer Capacitors , 39 μF; + / - 20%; 20 V , 6,3 x 7,7; Manufacturer: Wurth Elektronik; partNo: 875105445005; E-mail: libraries@we-online.com; Characteristics: Aluminum Polymer Capacitors;Recommended soldering: Reflow;Operating temperature: –55 °C to +105 °C;Low profile SMD product series;Low ESR at high frequency range;High permissible ripple current;Load life: 2000 h @ +105 °C; ComponentLink1Description: Manufacturer; ComponentLink1URL: http://www.we-online.com; ComponentLink2Description: Datasheet; ComponentLink2URL: http://katalog.we-online.de/pbs/datasheet/875105445005.pdf; Created by: Karrer Zheng; Created Date: 5/13/2015; Capacitance: 39 μF; Application: Low voltage port filtering, appplid to high-end switching power supply, PC(desktop,laptop ),industrial computer, VGA card, server power, charger, TV, digital set-top box,DC-DC power module, game machine etc which consume large current with high speed circuit.
footprint WCAP-PSLP 6.3x7.7x2.2
pins: 1, 2

## WCAP-PSLP 6.3x7.7x2.2 875105445006
designator C?, comment 47 μF
WCAP-PSLP Aluminum Polymer Capacitors , 47 μF; + / - 20%; 20 V , 6,3 x 7,7; Manufacturer: Wurth Elektronik; partNo: 875105445006; E-mail: libraries@we-online.com; Characteristics: Aluminum Polymer Capacitors;Recommended soldering: Reflow;Operating temperature: –55 °C to +105 °C;Low profile SMD product series;Low ESR at high frequency range;High permissible ripple current;Load life: 2000 h @ +105 °C; ComponentLink1Description: Manufacturer; ComponentLink1URL: http://www.we-online.com; ComponentLink2Description: Datasheet; ComponentLink2URL: http://katalog.we-online.de/pbs/datasheet/875105445006.pdf; Created by: Karrer Zheng; Created Date: 5/13/2015; Capacitance: 47 μF; Application: Low voltage port filtering, appplid to high-end switching power supply, PC(desktop,laptop ),industrial computer, VGA card, server power, charger, TV, digital set-top box,DC-DC power module, game machine etc which consume large current with high speed circuit.
footprint WCAP-PSLP 6.3x7.7x2.2
pins: 1, 2

## WCAP-PSLP 6.3x7.7x2.2 875105445007
designator C?, comment 56 μF
WCAP-PSLP Aluminum Polymer Capacitors , 56 μF; + / - 20%; 20 V , 6,3 x 7,7; Manufacturer: Wurth Elektronik; partNo: 875105445007; E-mail: libraries@we-online.com; Characteristics: Aluminum Polymer Capacitors;Recommended soldering: Reflow;Operating temperature: –55 °C to +105 °C;Low profile SMD product series;Low ESR at high frequency range;High permissible ripple current;Load life: 2000 h @ +105 °C; ComponentLink1Description: Manufacturer; ComponentLink1URL: http://www.we-online.com; ComponentLink2Description: Datasheet; ComponentLink2URL: http://katalog.we-online.de/pbs/datasheet/875105445007.pdf; Created by: Karrer Zheng; Created Date: 5/13/2015; Capacitance: 56 μF; Application: Low voltage port filtering, appplid to high-end switching power supply, PC(desktop,laptop ),industrial computer, VGA card, server power, charger, TV, digital set-top box,DC-DC power module, game machine etc which consume large current with high speed circuit.
footprint WCAP-PSLP 6.3x7.7x2.2
pins: 1, 2


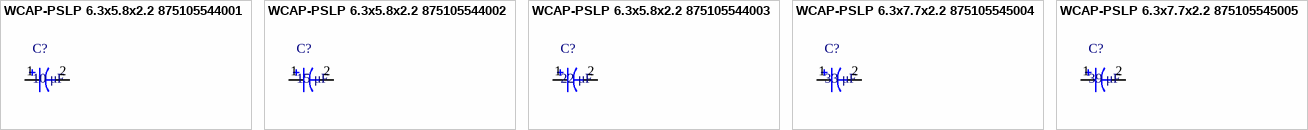
[diagram p4: symbols WCAP-PSLP 6.3x5.8x2.2 875105544001 to WCAP-PSLP 6.3x7.7x2.2 875105545005]

## WCAP-PSLP 6.3x5.8x2.2 875105544001
designator C?, comment 10 μF
WCAP-PSLP Aluminum Polymer Capacitors , 10 μF; + / - 20%; 25 V , 6,3 x 5,8; Manufacturer: Wurth Elektronik; partNo: 875105544001; E-mail: libraries@we-online.com; Characteristics: Aluminum Polymer Capacitors;Recommended soldering: Reflow;Operating temperature: –55 °C to +105 °C;Low profile SMD product series;Low ESR at high frequency range;High permissible ripple current;Load life: 2000 h @ +105 °C; ComponentLink1Description: Manufacturer; ComponentLink1URL: http://www.we-online.com; ComponentLink2Description: Datasheet; ComponentLink2URL: http://katalog.we-online.de/pbs/datasheet/875105544001.pdf; Created by: Karrer Zheng; Created Date: 5/13/2015; Capacitance: 10 μF; Application: Low voltage port filtering, appplid to high-end switching power supply, PC(desktop,laptop ),industrial computer, VGA card, server power, charger, TV, digital set-top box,DC-DC power module, game machine etc which consume large current with high speed circuit.
footprint WCAP-PSLP 6.3x5.8x2.2
pins: 1, 2

## WCAP-PSLP 6.3x5.8x2.2 875105544002
designator C?, comment 15 μF
WCAP-PSLP Aluminum Polymer Capacitors , 15 μF; + / - 20%; 25 V , 6,3 x 5,8; Manufacturer: Wurth Elektronik; partNo: 875105544002; E-mail: libraries@we-online.com; Characteristics: Aluminum Polymer Capacitors;Recommended soldering: Reflow;Operating temperature: –55 °C to +105 °C;Low profile SMD product series;Low ESR at high frequency range;High permissible ripple current;Load life: 2000 h @ +105 °C; ComponentLink1Description: Manufacturer; ComponentLink1URL: http://www.we-online.com; ComponentLink2Description: Datasheet; ComponentLink2URL: http://katalog.we-online.de/pbs/datasheet/875105544002.pdf; Created by: Karrer Zheng; Created Date: 5/13/2015; Capacitance: 15 μF; Application: Low voltage port filtering, appplid to high-end switching power supply, PC(desktop,laptop ),industrial computer, VGA card, server power, charger, TV, digital set-top box,DC-DC power module, game machine etc which consume large current with high speed circuit.
footprint WCAP-PSLP 6.3x5.8x2.2
pins: 1, 2